# Altium schematic symbol library P4004.SchLib: 1 symbol
Pins are listed as number, name and electrical type; pins without a type are passive.

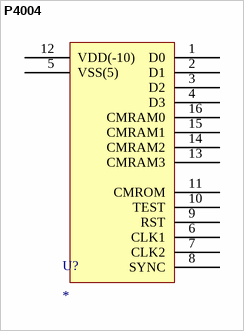
[diagram p0: symbol P4004]

## P4004
designator U?
footprint P4004
pins: 1 D0, 2 D1, 3 D2, 4 D3, 5 VSS(5), 6 CLK1, 7 CLK2, 8 SYNC, 9 RST, 10 TEST, 11 CMROM, 12 VDD(-10), 13 CMRAM3, 14 CMRAM2, 15 CMRAM1, 16 CMRAM0